# Altium footprint library Data_logger.PcbLib: 66 footprints (part 2 of 5)
Each footprint in its own frame and in the unit in brackets; x right, y up, seen from the top. Pads: shape width x height; smd on the part's side, far side on the other; paste and mask are expansions set on the pad; w line width, h text height; cw(c..) or ccw(c..) is an arc to the next point about the centre after c.
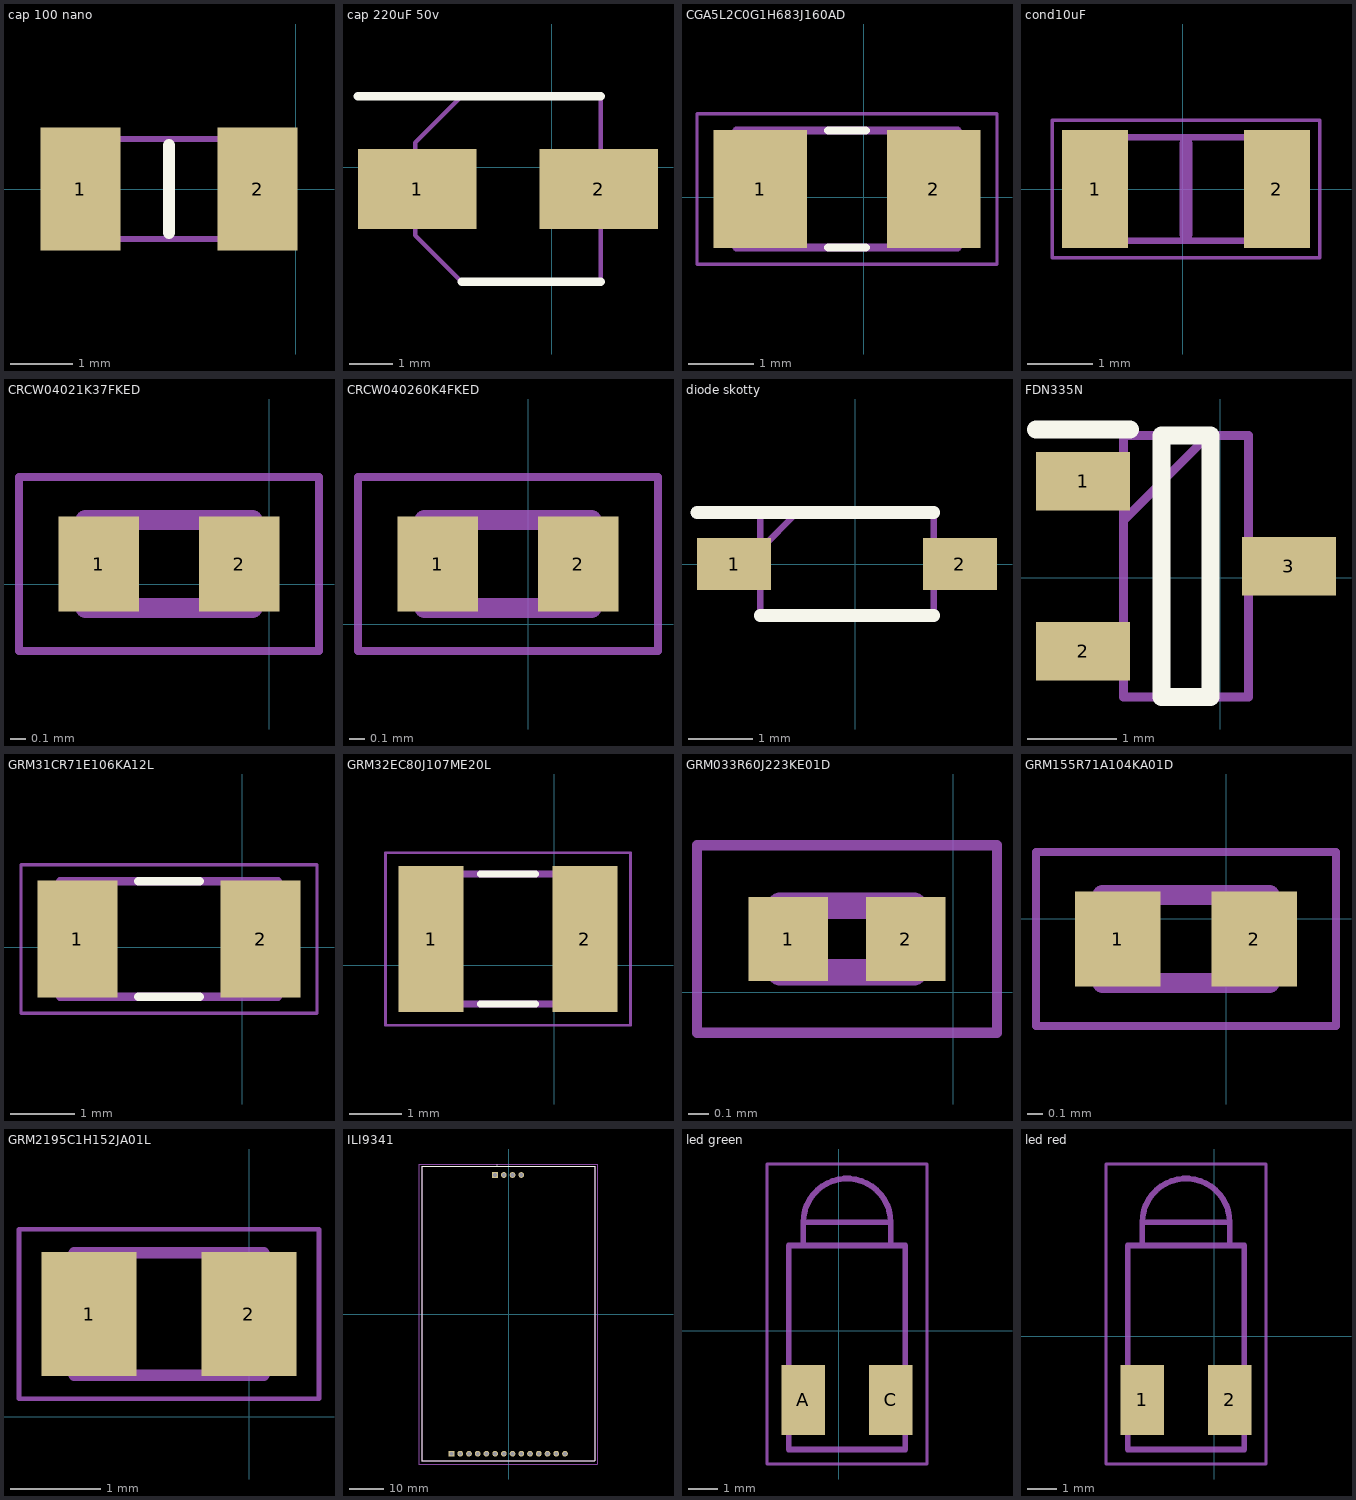
[diagram p1: the footprints below, top view; thin cyan lines are the x and y axes]

## cap 100 nano [mm]
pads (2):
  rect 1.28x1.96 smd: 1(-3.452,0) 2(-0.612,0)
Top Overlay:
  lines w0.2: -2.032,-0.7 -2.032,0.7
Top Courtyard:
  lines w0.1: -3.682,-0.8 -0.382,-0.8 -0.382,0.8 -3.682,0.8 -3.682,-0.8
3D body "C1206X224KARACAUTO.stp": height 1.8, standoff 0, extent -3.937,-0.889 -0.237,1.061

## cap 220uF 50v [mm]
pads (2):
  rect 2.75x1.85 smd: 1(-3.116,-0.508) 2(1.084,-0.508)
Top Overlay:
  lines w0.2: -4.491,1.642 1.134,1.642 ; -2.091,-2.658 1.134,-2.658
Top Courtyard:
  lines w0.1: -3.166,-1.583 -3.166,0.567 -2.091,1.642 1.134,1.642 1.134,-2.658 -2.091,-2.658 -3.166,-1.583
3D body "UWP1HR22MCL1GB.stp": height 5.5, standoff 0, extent -4.02,-2.758 1.48,1.742

## CGA5L2C0G1H683J160AD [mm]
pads (2):
  rect 1.44x1.82 smd: 1(-1.59,0.127) 2(1.082,0.127)
Top Overlay:
  lines w0.127: -0.544,-0.773 0.036,-0.773 ; -0.544,1.027 0.036,1.027
Top 3D Body:
  lines w0.127: -1.954,-0.773 1.446,-0.773 1.446,1.027 -1.954,1.027 -1.954,-0.773
Top Courtyard:
  lines w0.05: -2.562,-1.031 2.054,-1.031 2.054,1.285 -2.562,1.285 -2.562,-1.031
3D body "step_temp.STEP": height 1.9, standoff 0, extent -1.854,-0.673 1.346,0.927

## cond10uF [mm]
pads (2):
  rect 1.02x1.82 smd: 1(-1.348,0.006) 2(1.452,0.006)
Bottom Assembly:
  lines w0.05: -2.008,-1.054 -2.008,1.066 2.112,1.066 2.112,-1.054 -2.008,-1.054
  lines w0.1: -1.548,-0.794 -1.548,0.806 1.652,0.806 1.652,-0.794 -1.548,-0.794
Mechanical 7:
  lines w0.2: 0.052,-0.694 0.052,0.706
3D body "KAM31GR71C106KU.stp": height 1.78, standoff 0, extent -1.675,-0.794 1.525,0.806

## CRCW04021K37FKED [mm]
pads (2):
  rect 0.51x0.6 smd: 1(-1.08,0.127) 2(-0.19,0.127)
Top 3D Body:
  lines w0.127: -1.165,-0.153 -0.105,-0.153 -0.105,0.407 -1.165,0.407 -1.165,-0.153
Top Courtyard:
  lines w0.05: -1.585,-0.423 0.315,-0.423 0.315,0.677 -1.585,0.677 -1.585,-0.423
3D body "CRCW04021K37FKED.STEP": height 0.4, standoff 0, extent -1.135,-0.123 -0.135,0.377

## CRCW040260K4FKED [mm]
pads (2):
  rect 0.51x0.6 smd: 1(-0.572,0.381) 2(0.318,0.381)
Top 3D Body:
  lines w0.127: -0.657,0.101 -0.657,0.661 0.403,0.661 0.403,0.101 -0.657,0.101
Top Courtyard:
  lines w0.05: -1.077,-0.169 -1.077,0.931 0.823,0.931 0.823,-0.169 -1.077,-0.169
3D body "CRCW040260K4FKED (1).STEP": height 0.4, standoff 0, extent -0.627,0.131 0.373,0.631

## diode skotty [mm]
pads (2):
  rect 1.15x0.8 smd: 1(-1.877,0) 2(1.623,0)
Top Overlay:
  lines w0.2: -2.452,0.8 1.218,0.8 ; -1.472,-0.8 1.218,-0.8
Top Courtyard:
  lines w0.1: -1.472,0.225 -0.897,0.8 ; -1.472,-0.8 1.218,-0.8 1.218,0.8 -1.472,0.8 -1.472,-0.8
3D body "MBR130T1G.stp": height 1.35, standoff 0, extent -1.855,-0.8 1.855,0.8

## FDN335N [mm]
pads (3):
  rect 1.05x0.65 smd: 1(-1.531,1.077) 2(-1.531,-0.823) 3(0.769,0.127)
Top Overlay:
  lines w0.2: -2.056,1.652 -1.006,1.652 ; -0.656,-1.333 -0.656,1.587 -0.106,1.587 -0.106,-1.333 -0.656,-1.333
Top Courtyard:
  lines w0.1: -1.081,0.637 -0.131,1.587 ; -1.081,-1.333 -1.081,1.587 0.319,1.587 0.319,-1.333 -1.081,-1.333
3D body "FDN335N.stp": height 1.12, standoff 0, extent -1.636,-1.333 0.874,1.587

## GRM31CR71E106KA12L [mm]
pads (2):
  rect 1.25x1.82 smd: 1(-2.573,0.127) 2(0.287,0.127)
Top Overlay:
  lines w0.127: -1.623,-0.773 -0.663,-0.773 ; -1.623,1.027 -0.663,1.027
Top 3D Body:
  lines w0.127: -2.843,-0.773 0.557,-0.773 0.557,1.027 -2.843,1.027 -2.843,-0.773
Top Courtyard:
  lines w0.05: -3.451,-1.031 1.165,-1.031 1.165,1.285 -3.451,1.285 -3.451,-1.031
3D body "step_temp.STEP": height 1.8, standoff 0, extent -2.743,-0.673 0.457,0.927

## GRM32EC80J107ME20L [mm]
pads (2):
  rect 1.25x2.81 smd: 1(-2.368,0.508) 2(0.59,0.508)
Top Overlay:
  lines w0.127: -1.419,-0.742 -0.359,-0.742 ; -1.419,1.758 -0.359,1.758
Top 3D Body:
  lines w0.127: -2.489,-0.742 -2.489,1.758 0.711,1.758 0.711,-0.742 -2.489,-0.742
Top Courtyard:
  lines w0.05: -3.244,-1.147 -3.244,2.163 1.466,2.163 1.466,-1.147 -3.244,-1.147
3D body "step_temp.STEP": height 2.2, standoff 0, extent -2.489,-0.742 0.711,1.758

## GRM033R60J223KE01D [mm]
pads (2):
  rect 0.38x0.4 smd: 1(-0.789,0.254) 2(-0.227,0.254)
Top 3D Body:
  lines w0.127: -0.828,0.094 -0.188,0.094 -0.188,0.414 -0.828,0.414 -0.828,0.094
Top Courtyard:
  lines w0.05: -1.226,-0.194 0.21,-0.194 0.21,0.702 -1.226,0.702 -1.226,-0.194
3D body "GRM033R60J223KE01D.STEP": height 0.33, standoff 0, extent -0.808,0.081 -0.208,0.381

## GRM155R71A104KA01D [mm]
pads (2):
  rect 0.54x0.6 smd: 1(-0.686,-0.127) 2(0.178,-0.127)
Top 3D Body:
  lines w0.127: -0.784,-0.407 -0.784,0.153 0.276,0.153 0.276,-0.407 -0.784,-0.407
Top Courtyard:
  lines w0.05: -1.204,-0.677 -1.204,0.423 0.696,0.423 0.696,-0.677 -1.204,-0.677
3D body "GRM155R71A104KA01D.STEP": height 0.55, standoff 0, extent -0.754,-0.373 0.246,0.127

## GRM2195C1H152JA01L [mm]
pads (2):
  rect 1.05x1.38 smd: 1(-1.777,1.143) 2(-0.001,1.143)
Top 3D Body:
  lines w0.127: -1.939,0.463 -1.939,1.823 0.161,1.823 0.161,0.463 -1.939,0.463
Top Courtyard:
  lines w0.05: -2.554,0.203 -2.554,2.083 0.776,2.083 0.776,0.203 -2.554,0.203
3D body "GRM2195C1H152JA01L.STEP": height 0.95, standoff 0, extent -1.889,0.391 0.111,1.641

## ILI9341 [mm]
pads (18):
  rect 1.665x1.665 hole 1.11: A1(-3.97,40.575) B1(-16.663,-40.525)
  round 1.665 hole 1.11: A2(-1.43,40.575) A3(1.11,40.575) A4(3.65,40.575) B2(-14.123,-40.525) B3(-11.583,-40.525) B4(-9.043,-40.525) B5(-6.503,-40.525) B6(-3.963,-40.525) B7(-1.423,-40.525) B8(1.117,-40.525) B9(3.657,-40.525) B10(6.197,-40.525) B11(8.737,-40.525) B12(11.277,-40.525) B13(13.817,-40.525) B14(16.357,-40.525)
Top Overlay:
  lines w0.1: -3.475,43.425 cw(c-3.475,43.475) -3.475,43.525
  lines w0.2: -25.299,-42.525 24.993,-42.525 24.993,43.125 -25.299,43.125 -25.299,-42.525
Top 3D Body:
  lines w0.1: -25.299,-42.525 24.993,-42.525 24.993,43.125 -25.299,43.125 -25.299,-42.525
Top Courtyard:
  lines w0.1: -26.188,-43.525 25.755,-43.525 25.755,43.775 -26.188,43.775 -26.188,-43.525
3D body "90147-1104.stp": height 8.31, standoff -3.09, extent -5.235,39.405 4.925,41.945
3D body "90147-1114.stp": height 9.25, standoff -2.15, extent -17.905,-41.62 17.655,-39.08

## led green [mm]
pads (2):
  rect 1.5x2.4 smd: A(-1.225,-2.378) C(1.775,-2.378)
Bottom Assembly:
  lines w0.1: -2.475,-4.578 3.025,-4.578 3.025,5.722 -2.475,5.722 -2.475,-4.578
  lines w0.2: -1.225,2.922 -1.225,3.722 ; 1.775,2.922 1.775,3.722 ; -1.225,3.722 cw(c0.275,3.722) 1.775,3.722 ; -1.225,3.722 1.775,3.722 ; -1.225,3.722 1.775,3.722 ; -1.725,-4.078 2.275,-4.078 2.275,2.922 -1.725,2.922 -1.725,-4.078
Mechanical 7:
  lines w0.1: -1.725,-0.578 -1.725,2.922 2.275,2.922 2.275,-0.578 ; -0.225,-4.078 0.775,-4.078
3D body "SSF-LXH305GD-TR.stp": height 5.54, standoff 0.02, extent -1.471,-5.934 2.529,3.366

## led red [mm]
pads (2):
  rect 1.5x2.4 smd: 1(-2.475,-2.178) 2(0.525,-2.178)
Bottom Assembly:
  lines w0.1: -3.725,-4.378 1.775,-4.378 1.775,5.922 -3.725,5.922 -3.725,-4.378
  lines w0.2: -2.475,3.122 -2.475,3.922 ; 0.525,3.122 0.525,3.922 ; -2.475,3.922 cw(c-0.975,3.922) 0.525,3.922 ; -2.475,3.922 0.525,3.922 ; -2.475,3.922 0.525,3.922 ; -2.975,-3.878 1.025,-3.878 1.025,3.122 -2.975,3.122 -2.975,-3.878
Mechanical 7:
  lines w0.1: -2.975,-0.378 -2.975,3.122 1.025,3.122 1.025,-0.378 ; -1.475,-3.878 -0.475,-3.878
3D body "SSF-LXH305GD-TR.stp": height 5.54, standoff 0.02, extent -2.721,-5.734 1.279,3.566